# EAGLE library part XC18V02 (library kamiki)
In-System Programmable Configuration PROM
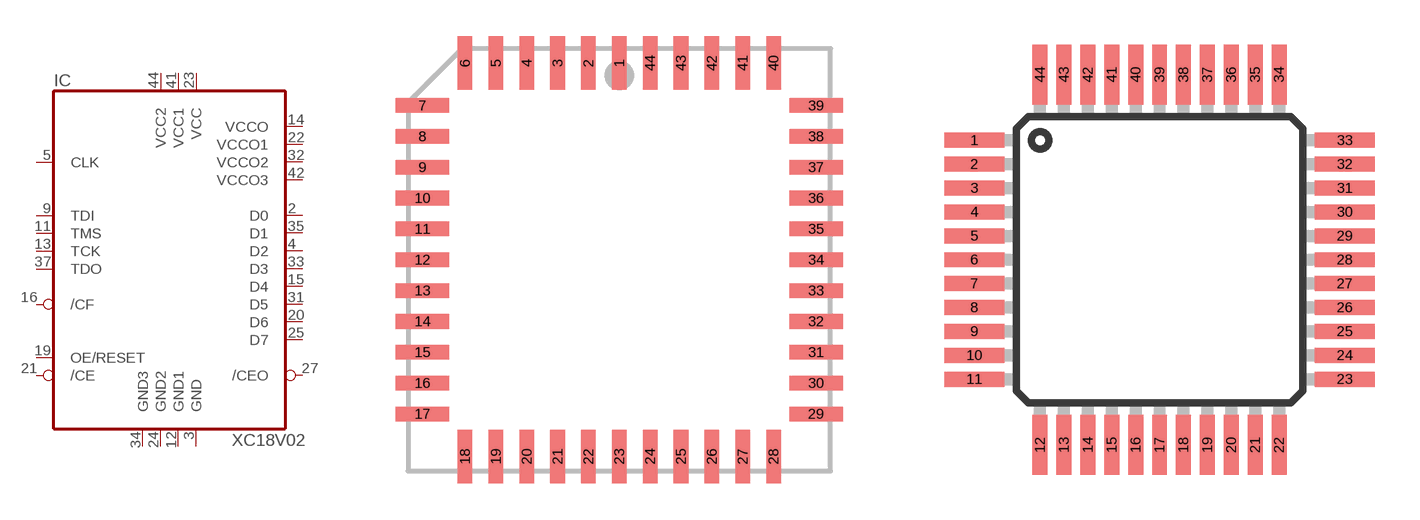
[diagram p38: symbol with the pads of PLCC44S; footprints PLCC44S, PQFP44]

Designator prefix IC

## XC18V02PC44  [PLCC44S]
2  D0  hiz
3  GND  pwr
4  D2  hiz
5  CLK  in
9  TDI  in
11  TMS  pas
12  GND1  pwr
13  TCK  pas
14  VCCO  pwr
15  D4  hiz
16  /CF  hiz
19  OE/RESET
20  D6  hiz
21  /CE  in
22  VCCO1  pwr
23  VCC  pwr
24  GND2  pwr
25  D7  hiz
27  /CEO  hiz
31  D5  hiz
32  VCCO2  pwr
33  D3  hiz
34  GND3  pwr
35  D1  hiz
37  TDO  out
41  VCC1  pwr
42  VCCO3  pwr
44  VCC2  pwr

## XC18V02VQ44  [PQFP44]
3  TDI  in
5  TMS  pas
6  GND  pwr
7  TCK  pas
8  VCCO  pwr
9  D4  hiz
10  /CF  hiz
13  OE/RESET
14  D6  hiz
15  /CE  in
16  VCCO1  pwr
17  VCC  pwr
18  GND1  pwr
19  D7  hiz
21  /CEO  hiz
25  D5  hiz
26  VCCO2  pwr
27  D3  hiz
28  GND2  pwr
29  D1  hiz
31  TDO  out
35  VCC1  pwr
36  VCCO3  pwr
38  VCC2  pwr
40  D0  hiz
41  GND3  pwr
42  D2  hiz
43  CLK  in

## Footprint PLCC44S (pad centres in mm)
PLASTIC LEADED CHIP CARRIER square
smd 0.6 x 2.2: 1 0,8.1; 2 -1.27,8.1; 3 -2.54,8.1; 4 -3.81,8.1; 5 -5.08,8.1; 6 -6.35,8.1; 18 -6.35,-8.1; 19 -5.08,-8.1; 20 -3.81,-8.1; 21 -2.54,-8.1; 22 -1.27,-8.1; 23 0,-8.1; 24 1.27,-8.1; 25 2.54,-8.1; 26 3.81,-8.1; 27 5.08,-8.1; 28 6.35,-8.1; 40 6.35,8.1; 41 5.08,8.1; 42 3.81,8.1; 43 2.54,8.1; 44 1.27,8.1
smd 2.2 x 0.6: 7 -8.1,6.35; 8 -8.1,5.08; 9 -8.1,3.81; 10 -8.1,2.54; 11 -8.1,1.27; 12 -8.1,0; 13 -8.1,-1.27; 14 -8.1,-2.54; 15 -8.1,-3.81; 16 -8.1,-5.08; 17 -8.1,-6.35; 29 8.1,-6.35; 30 8.1,-5.08; 31 8.1,-3.81; 32 8.1,-2.54; 33 8.1,-1.27; 34 8.1,0; 35 8.1,1.27; 36 8.1,2.54; 37 8.1,3.81; 38 8.1,5.08; 39 8.1,6.35

## Footprint PQFP44 (pad centres in mm)
Plastic Quad Flat Package from ATMEL.lbr
smd 2 x 0.5: 1 -6.2,4; 2 -6.2,3.2; 3 -6.2,2.4; 4 -6.2,1.6; 5 -6.2,0.8; 6 -6.2,0; 7 -6.2,-0.8; 8 -6.2,-1.6; 9 -6.2,-2.4; 10 -6.2,-3.2; 11 -6.2,-4; 23 6.2,-4; 24 6.2,-3.2; 25 6.2,-2.4; 26 6.2,-1.6; 27 6.2,-0.8; 28 6.2,0; 29 6.2,0.8; 30 6.2,1.6; 31 6.2,2.4; 32 6.2,3.2; 33 6.2,4
smd 0.5 x 2: 12 -4,-6.2; 13 -3.2,-6.2; 14 -2.4,-6.2; 15 -1.6,-6.2; 16 -0.8,-6.2; 17 0,-6.2; 18 0.8,-6.2; 19 1.6,-6.2; 20 2.4,-6.2; 21 3.2,-6.2; 22 4,-6.2; 34 4,6.2; 35 3.2,6.2; 36 2.4,6.2; 37 1.6,6.2; 38 0.8,6.2; 39 0,6.2; 40 -0.8,6.2; 41 -1.6,6.2; 42 -2.4,6.2; 43 -3.2,6.2; 44 -4,6.2